# EAGLE library part 12XFFC (library NU-Smarticle v2)
Molex 512811294
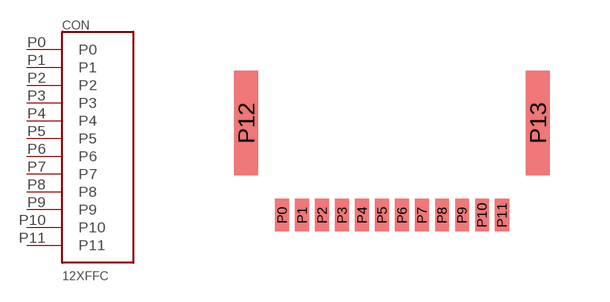
[diagram p5: symbol with the pads of MOLEX_51281-1294; footprint MOLEX_51281-1294]

Designator prefix CON

## 12XFFCMOLEX_51281  [MOLEX_51281-1294]
P0  P0
P1  P1
P2  P2
P3  P3
P4  P4
P5  P5
P6  P6
P7  P7
P8  P8
P9  P9
P10  P10
P11  P11

## Footprint MOLEX_51281-1294 (pad centres in mm)
smd 0.35 x 0.8: P0 -2.75,-2.3; P1 -2.25,-2.3; P2 -1.75,-2.3; P3 -1.25,-2.3; P4 -0.75,-2.3; P5 -0.25,-2.3; P6 0.25,-2.3; P7 0.75,-2.3; P8 1.25,-2.3; P9 1.75,-2.3; P10 2.25,-2.3; P11 2.75,-2.3
smd 0.6 x 2.6: P12 -3.65,0; P13 3.65,0